# EAGLE library part WII_IR_CAM (library wiicam)
Wiimote Infrared Camera (by Pixart). Can be hand-soldered to breadboard with header pins to form a DIL-08 package, or can be soldered directly to custom PCB. Pinout and interfacing details can be found at these websites: http://www.kako.com/neta/2007-001/2007-001.html http://www.kako.com/neta/2008-009/2008-009.html http://letsmakerobots.com/node/7752 http://www.stephenhobley.com/blog/2009/03/01/pixartwiimote-sensor-library-for-arduino http://blog.makezine.com/archive/2008/11/hacking_the_wiimote_ir_ca.html http://www.cc-zwei.de/wiki/index.php/ATM18::Projekt::Wii_Remote_IR_Sensor http://www.bot-thoughts.com/2010/12/connecting-mbed-to-wiimote-ir-camera.html
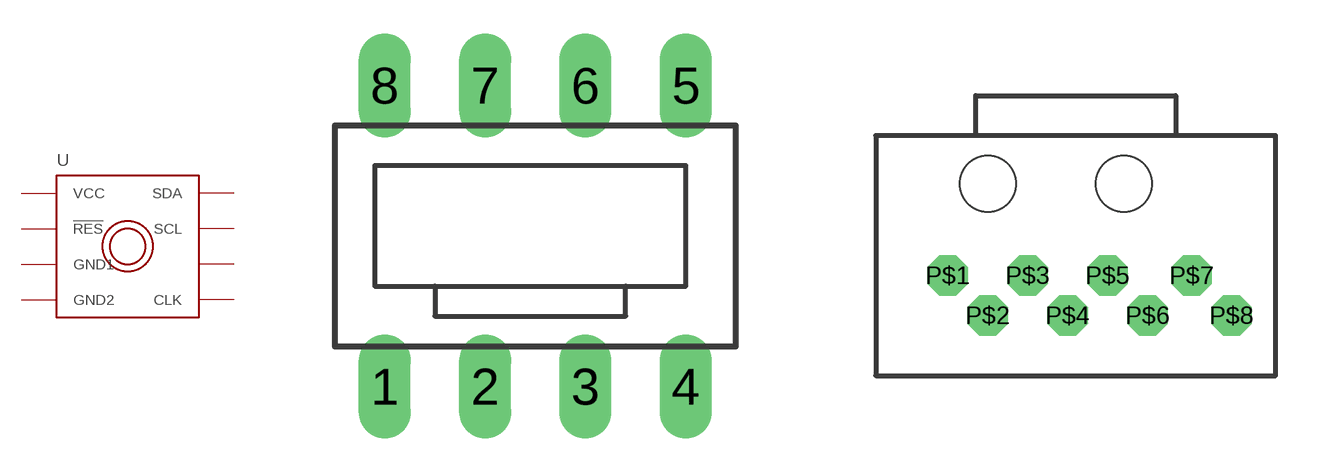
[diagram p0: symbol with the pads of WII_DIL08_BREAKOUT; footprints WII_DIL08_BREAKOUT, WIICAM]

Designator prefix -

## WII_IR_CAM  [WII_DIL08_BREAKOUT]
1  CLK  in
2  SCL  in
3  GND1  pwr
4  VCC  pwr
5  GND2  pwr
6  P$1  nc
7  SDA
8  !RES  in

## WII_IR_CAMORIG  [WIICAM]
P$1  VCC  pwr
P$2  GND1  pwr
P$3  GND2  pwr
P$4  P$1  nc
P$5  SCL  in
P$6  SDA
P$7  CLK  in
P$8  !RES  in

## Footprint WII_DIL08_BREAKOUT (pad centres in mm)
Dual In Line
drill 0.813 long: 1 -3.81,-3.81; 2 -1.27,-3.81; 3 1.27,-3.81; 4 3.81,-3.81; 5 3.81,3.81; 6 1.27,3.81; 7 -1.27,3.81; 8 -3.81,3.81

## Footprint WIICAM (pad centres in mm)
drill 0.5 octagon: P$1 -3.2,-0.5; P$2 -2.2,-1.5; P$3 -1.2,-0.5; P$4 -0.2,-1.5; P$5 0.8,-0.5; P$6 1.8,-1.5; P$7 2.9,-0.5; P$8 3.9,-1.5
hole 1.4 at -2.2,1.8
hole 1.4 at 1.2,1.8